# Altium schematic symbol library CPT-4013-100T.SchLib: 1 symbol
Pins are listed as number, name and electrical type; pins without a type are passive.

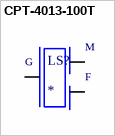
[diagram p0: symbol CPT-4013-100T]

## CPT-4013-100T
designator LS?
40 mm, 9 Vdc, 100 dB, Through Hole, Piezo Audio Transducer Buzzer; MF: {'manufacturer': u'CUI Devices'}; MP: CPT-4013-100T; Value: *; Package: None; Price: None; Availability: Unavailable
footprint XDCR_CPT-4013-100T
pins: 1 M, 2 F, 3 G